# Altium schematic symbol library Power_DiscreteSSR_1.SCHLIB: 79 symbols (part 2 of 3)
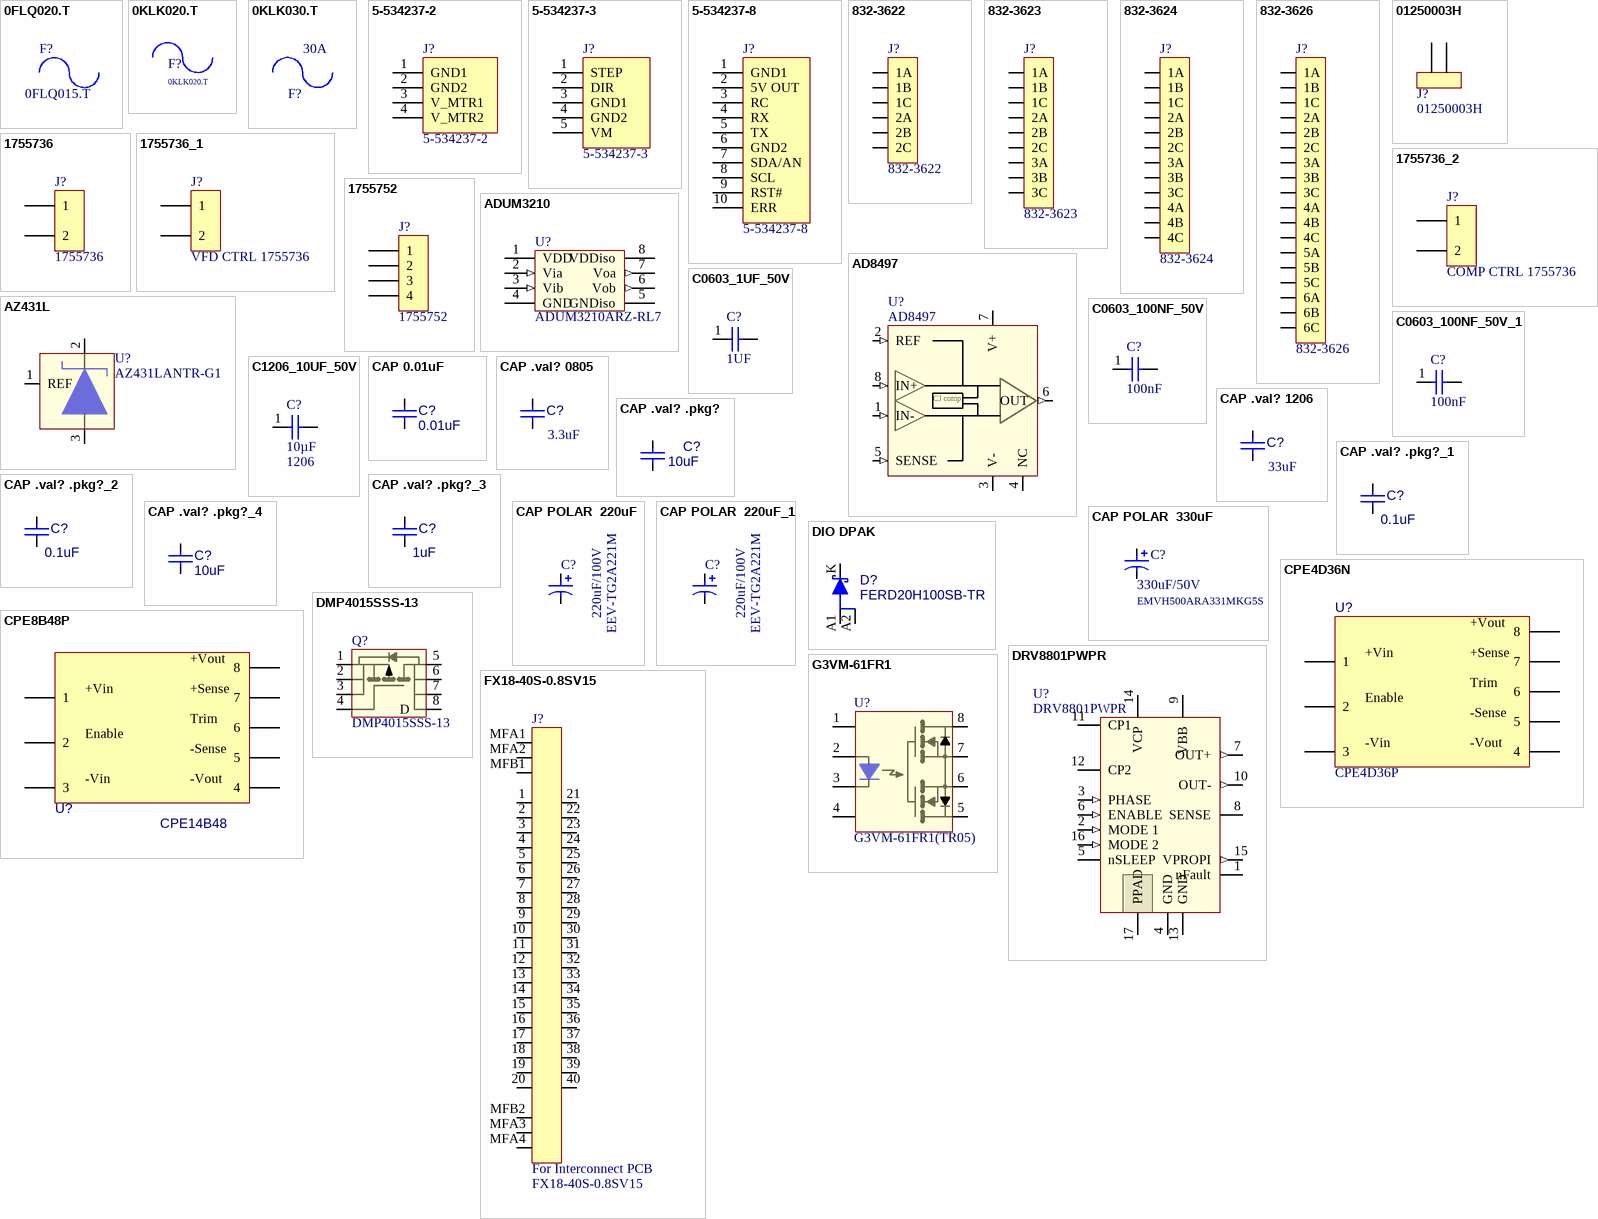
[diagram p2: symbols 0FLQ020.T to G3VM-61FR1]

## DMP4015SSS-13
designator Q?
MOSFET P-CH 40V 10.1A 8-Pin SO T/R; Manufacturer: Diodes; Rise Time: 10ns; Continuous Drain Current (ID): 9.1A; Turn-On Delay Time: 13.2ns; Turn-Off Delay Time: 302.7ns; Fall Time: 137.9ns; Gate to Source Voltage (Vgs): 25V; Rds On Max: 11mR; Input Capacitance: 4.234nF; Max Power Dissipation: 1.45W; Drain to Source Breakdown Voltage: -40V; Drain to Source Resistance: 7mR; Number of Channels: 1; ComponentLink1URL: http://www.vishay.com/docs/73140/si4401bd.pdf; ComponentLink1Description: http://www.vishay.com/docs/73140/si4401bd.pdf; Supplier 1: Digi-Key; Supplier Part Number 1: DMP4015SSS-13DIDKR-ND; Stock 1: 4398; Pricing 1: 1=0.79, 10=0.694, 100=0.5321, 500=0.42066, 1000=0.33653 (USD); Mount: Surface Mount; Case/Package: SO; Number of Pins: 8; Weight: 0.00261oz; Min Operating Temperature: -55°C; Max Operating Temperature: 150°C; Packaging: Tape and Reel; Package Quantity: 2500; Drain to Source Voltage (Vdss): 40V; Number of Elements: 1; Radiation Hardening: No; REACH SVHC: No SVHC; ComponentLink2URL: http://www.diodes.com/datasheets/DMP4015SSS.pdf?src-supplier=Avnet; ComponentLink2Description: http://www.diodes.com/datasheets/DMP4015SSS.pdf?src-supplier=Avnet; ComponentLink3URL: http://www.mouser.com/ds/2/115/DMP4015SSS-218520.pdf?src-supplier=Mouser; ComponentLink3Description: http://www.mouser.com/ds/2/115/DMP4015SSS-218520.pdf?src-supplier=Mouser; Manufacturer Part Number: DMP4015SSS-13
footprint SO_8
footprint SOIC_8
pins: 1 S, 2 S, 3 S, 4 G, 5 D, 6 D, 7 D, 8 D

## DRV8801PWPR
designator U?
IC MOTOR DRIVER PAR 16HTSSOP; Manufacturer: Texas Instruments; Max Supply Voltage: 38V; Min Supply Voltage: 8V; Output Current: 2.8A; Nominal Supply Current: 6mA; Logic Function: AND; Quiescent Current: 3.2mA; Operating Supply Voltage: 36V; Number of Outputs: 1; Interface: Parallel; Supplier 1: Digi-Key; Supplier Part Number 1: 296-25378-6-ND; Stock 1: 34165; Pricing 1: 1=2.65, 10=2.377, 100=1.9109, 500=1.56998, 1000=1.30084 (USD); Mount: Surface Mount; Case/Package: HTSSOP EP; Number of Pins: 16; Weight: 0.002212oz; Min Operating Temperature: -40°C; Max Operating Temperature: 85°C; Packaging: Tape and Reel; Package Quantity: 2000; Radiation Hardening: No; Lead Free: Lead Free; REACH SVHC: No SVHC; ComponentLink1URL: http://www.ti.com/lit/ds/symlink/drv8801.pdf?src-supplier=Digi-Key; ComponentLink1Description: http://www.ti.com/lit/ds/symlink/drv8801.pdf?src-supplier=Digi-Key; ComponentLink2URL: https://www.verical.com/server-webapp/html/getDatasheet?partID=362071&src-supplier=Verical; ComponentLink2Description: https://www.verical.com/server-webapp/html/getDatasheet?partID=362071&src-supplier=Verical; ComponentLink3URL: http://www.ti.com/lit/ds/symlink/drv8801.pdf?src-supplier=Avnet+Europe; ComponentLink3Description: http://www.ti.com/lit/ds/symlink/drv8801.pdf?src-supplier=Avnet+Europe; Manufacturer Part Number: DRV8801PWPR
footprint TSSOP_16_3X3
pins: 1 nFault (oc), 2 MODE 1 (in), 3 PHASE (in), 4 GND (power), 5 nSLEEP (oc), 6 ENABLE (in), 7 OUT+ (out), 8 SENSE, 9 VBB (power), 10 OUT- (out), 11 CP1, 12 CP2, 13 GND (power), 14 VCP, 15 VPROPI (out), 16 MODE 2 (in), 17 PPAD (power)

## FX18-40S-0.8SV15
designator J?, comment For Interconnect PCB  Manufacturer Part Number 1: FX18-40S-0.8SV15
CONN RCPT 40POS 0.8MM SMD GOLD; Manufacturer 1: Hirose; Number of Contacts: 40; Gender: Female; System: Connector; Mount: SMT; Contact Plating: Gold; Number of Rows: 2; Termination: Solder; Pitch: 0.8mm; Supplier 1: Digikey; Supplier Part Number 1: H12007-ND; RoHS: Yes; Category: Connectors; ComponentLink1Description: https://www.hirose.com/product/document?clcode=CL0579-0005-3-00&productname=FX18-100P-0.8SH&series=FX18&documenttype=Catalog&lang=en&documentid=D31695_en; ComponentLink1URL: https://www.hirose.com/product/document?clcode=CL0579-0005-3-00&productname=FX18-100P-0.8SH&series=FX18&documenttype=Catalog&lang=en&documentid=D31695_en; Manufacturer: Hirose; Manufacturer Part Number: FX18-40S-0.8SV15
footprint BCS-115-F-D-TE
footprint FX18-40S-0.8SV15 (CONN RCPT 40POS SMD GOLD)
pins: 1, 2, 3, 4, 5, 6, 7, 8, 9, 10, 11, 12, 13, 14, 15, 16, 17, 18, 19, 20, 21, 22, 23, 24, 25, 26, 27, 28, 29, 30, 31, 32, 33, 34, 35, 36, 37, 38 101, 39, 40, MFA1 (power), MFA2 (power), MFA3 (power), MFA4 (power), MFB1 (power), MFB2 (power)

## G3VM-61FR1
designator U?  Manufacturer Part Number: G3VM-61FR1(TR05)  (hidden comment: G3VM-61FR1)
SSR RELAY SPST-NO 5A 0-60V; Manufacturer: Omron; On-State Resistance: 50mR; Throw Configuration: SPST; Isolation Voltage: 2.5kV; Supplier 1: Digi-Key; Supplier Part Number 1: Z5867CT-ND; Stock 1: 11015; Pricing 1: 1=11.91, 10=11.162, 25=9.922, 50=9.426, 100=8.9298, 250=7.9376 (USD); Mount: Surface Mount; Case/Package: SMD/SMT; Number of Pins: 8; Packaging: Tape and Reel; Load Current: 5A; Termination: Gull Wing; Relay Type: Relay
footprint G3VM-61FR1 (SSR RELAY SPST-NO 5A 0-60V)
footprint SMD_8
pins: 1 NC, 2 A, 3 K, 4 NC, 5 D2, 6 S2, 7 S1, 8 D1

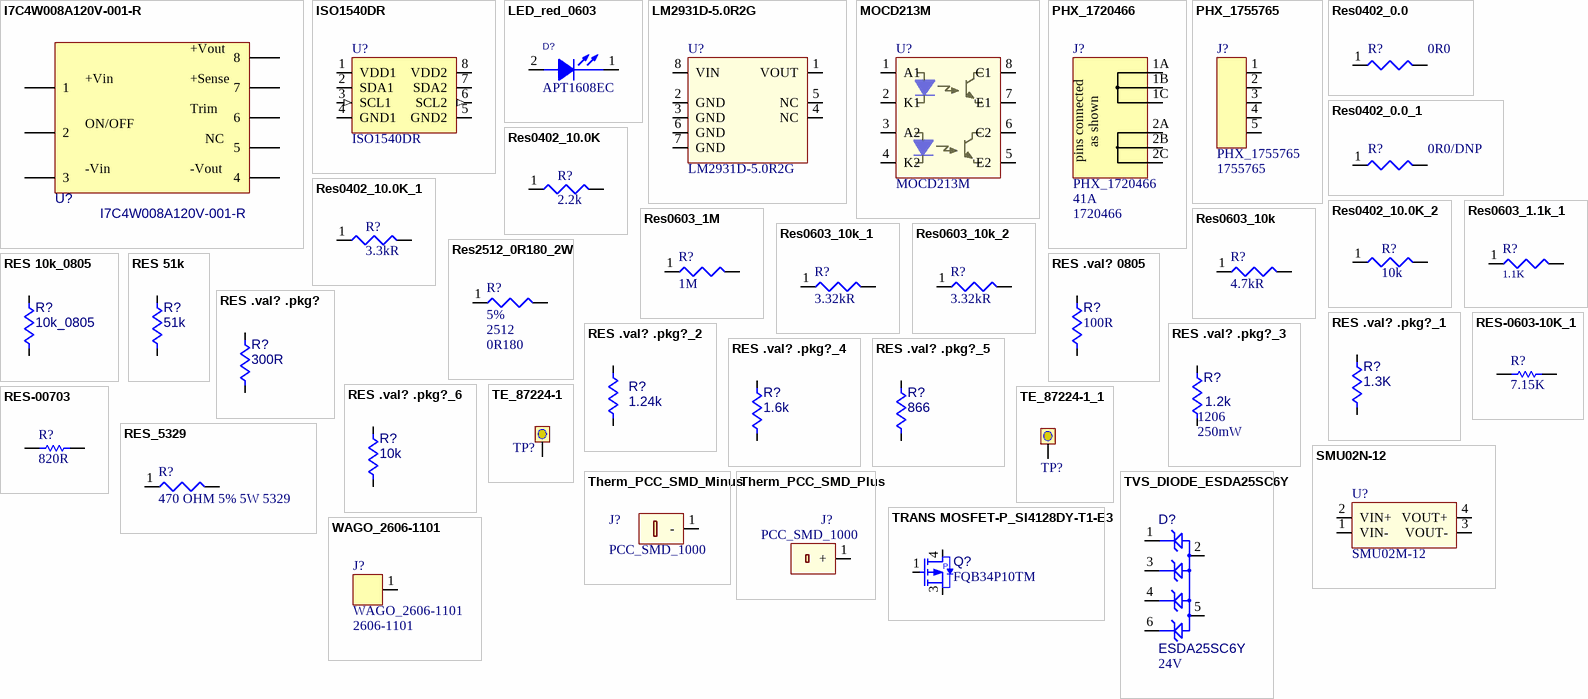
[diagram p1: symbols I7C4W008A120V-001-R to WAGO_2606-1101]

## I7C4W008A120V-001-R
designator U?
DC DC CONVERTER 9.6-48V OUTPUT 300W 8A 9V - 53V INPUT; Manufacturer: TDK-Lambda; Supplier 1: Digikey; Manufacturer Part Number: I7C4W008A120V-001-R; RoHS: Yes; Category: Board Mount Modules
footprint CPT2D36P (DC DC CONVERTER 72W)
pins: 1, 2, 3, 4, 5, 6, 7, 8
text: +Vout; +Vin; +Sense; Trim; ON/OFF; NC; -Vin; -Vout

## ISO1540DR
designator U?
TEXAS INSTRUMENTS - ISO1540DR - DIGITAL ISOLATOR, 2-CH, 1MBPS, SOIC-8; Number of Channels: 2; Min Supply Voltage: 3V; Max Supply Voltage: 5.5V; Nominal Supply Current: 3.6mA; Channel Type: Bidirectional; Propagation Delay: 70ns; Isolated Power: No; Pulse Width Distortion (PWD): 21ns; Working Voltage: 566V; Mount: Surface Mount; Case/Package: SOIC; Number of Pins: 8; Min Operating Temperature: -40°C; Max Operating Temperature: 125°C; Data Rate: 1Mbps; Packaging: Tape and Reel; Package Quantity: 1; REACH SVHC: No SVHC; Lead Free: Lead Free; ComponentLink1URL: https://datasheet.ciiva.com/6579/iso1540-6579725.pdf?src-supplier=Digi-Key; ComponentLink1Description: https://datasheet.ciiva.com/6579/iso1540-6579725.pdf?src-supplier=Digi-Key; ComponentLink2URL: https://datasheet.ciiva.com/6579/iso1540-6579723.pdf?src-supplier=Digi-Key; ComponentLink2Description: https://datasheet.ciiva.com/6579/iso1540-6579723.pdf?src-supplier=Digi-Key; ComponentLink3URL: https://datasheet.ciiva.com/6579/iso1540-6579724.pdf?src-supplier=Digi-Key; ComponentLink3Description: https://datasheet.ciiva.com/6579/iso1540-6579724.pdf?src-supplier=Digi-Key; Supplier 1: Digi-Key; Supplier Part Number 1: 296-34871-1-ND; Manufacturer 1: Texas Instruments; Manufacturer Part Number 1: ISO1540DR; Category: Interface ICs; RoHS: Yes; Stock 1: 30535; Pricing 1: 1=4.51000, 10=4.04600, 25=3.82520, 100=3.14500, 250=2.82200, 500=2.72000, 1000=2.26100 (USD); Manufacturer: Texas Instruments; Manufacturer Part Number: ISO1540DR; Manufacturer 2: Silicon Labs; Manufacturer Part Number 2: Si8600AB-B-ISR
footprint SOIC_8
pins: 1 VDD1 (power), 2 SDA1 (io), 3 SCL1 (in), 4 GND1 (power), 5 GND2 (power), 6 SCL2 (out), 7 SDA2 (io), 8 VDD2 (power)

## LED_red_0603
designator D?, comment Manufacturer Part Number: APT1608EC  (hidden comment: Error)
red, 0603; Manufacturer: Kingbright; Lens Color: Clear; Forward Current: 20mA; Forward Voltage: 2V; Luminous Intensity: 12mcd; Viewing Angle: 120°; Lens Style: Clear,Flat; Dominant Wavelength: 625nm; Number of LEDs: 1; Supplier 1: Digi-Key; Supplier Part Number 1: 754-1117-6-ND; Stock 1: 93649; Pricing 1: 1=0.35, 10=0.259, 25=0.1912, 100=0.1365, 250=0.09284, 500=0.0819, 1000=0.06416 (USD); Mount: Surface Mount; Case/Package: 0603; Number of Pins: 2; Color: Red; Case Code (Metric): 1608; Case Code (Imperial): 0603; Min Operating Temperature: -40°C; Max Operating Temperature: 85°C; Illumination Color: Red; Packaging: Tape and Reel; Package Quantity: 2000; Test Current: 20mA; Wavelength: 625nm; Length: 1.6mm; Height: 0.75mm; Width: 0.8mm; Lead Free: Lead Free; ComponentLink1URL: http://www.kingbrightusa.com/images/catalog/SPEC/APT1608EC.pdf?src-supplier=Digi-Key; ComponentLink1Description: http://www.kingbrightusa.com/images/catalog/SPEC/APT1608EC.pdf?src-supplier=Digi-Key; ComponentLink2URL: https://www.alliedelec.com/m/d/8f77ba6adbc677900716b25e6ddbc771.pdf?src-supplier=Allied+Electronics; ComponentLink2Description: https://www.alliedelec.com/m/d/8f77ba6adbc677900716b25e6ddbc771.pdf?src-supplier=Allied+Electronics; ComponentLink3URL: http://www.kingbrightusa.com/images/catalog/SPEC/APT1608EC.pdf?src-supplier=Future+Electronics; ComponentLink3Description: http://www.kingbrightusa.com/images/catalog/SPEC/APT1608EC.pdf?src-supplier=Future+Electronics
footprint APT1608EC
pins: 1 CATHODE, 2 ANODE
1 alternate drawing of the same symbol

## LM2931D-5.0R2G
designator U?
IC REG LINEAR 5V 100MA 8SOIC; Manufacturer 1: ON Semi; Min Input Voltage: 14V; Max Input Voltage: 40V; Dropout Voltage: 600mV; Number of Outputs: 1; Quiescent Current: 100uA; Accuracy: 5%; Output Type: Fixed; Mount: Surface Mount; Case/Package: 8SOIC; Number of Pins: 8; Min Operating Temperature: -40°C; Max Operating Temperature: 125°C; Nominal Output Voltage: 5V; Output Current: 100mA; Packaging: Tape and Reel; Output Voltage: 5V; Max Output Current: 100mA; Length: 5mm; Height: 1.75mm; Width: 6.2mm; REACH SVHC: No SVHC; Supplier 1: Digi-Key; Supplier Part Number 1: LM2931D-5.0R2GOSTR-ND; Manufacturer Part Number 1: LM2931D-5.0R2G; RoHS: Yes; Category: Voltage Regulators - Linear; Stock 1: 1142; Pricing 1: 1=0.11000, 25=0.09000, 100=0.08000 (USD); Manufacturer: ON Semi; Manufacturer Part Number: LM2931D-5.0R2G; ComponentLink1Description: https://www.onsemi.com/pdf/datasheet/lm2931-d.pdf; ComponentLink1URL: https://www.onsemi.com/pdf/datasheet/lm2931-d.pdf
footprint SOIC_8
pins: 1 VOUT (power), 2 GND (power), 3 GND (power), 4 NC, 5 NC, 6 GND (power), 7 GND (power), 8 VIN (power)

## MOCD213M
designator U?
OPTOISO 2.5KV 2CH TRANS 8SOIC; Manufacturer: ON Semiconductor / Fairchild; Collector Emitter Voltage (VCEO): 400mV; Number of Channels: 2; Forward Voltage: 1.55V; Max Output Voltage: 70V; Output Current per Channel: 150mA; Max Power Dissipation: 250mW; Rise Time: 1.6us; Reverse Breakdown Voltage: 6V; Forward Current: 60mA; Fall Time: 2.2us; Input Current: 30mA; ComponentLink1URL: http://www.farnell.com/datasheets/1725666.pdf?src-supplier=Element14; ComponentLink1Description: http://www.farnell.com/datasheets/1725666.pdf?src-supplier=Element14; ComponentLink2URL: http://uk.rs-online.com/webdocs/10e2/0900766b810e2595.pdf?src-supplier=RSComponents; ComponentLink2Description: http://uk.rs-online.com/webdocs/10e2/0900766b810e2595.pdf?src-supplier=RSComponents; ComponentLink3URL: https://www.verical.com/server-webapp/html/getDatasheet?partID=95917&src-supplier=Verical; ComponentLink3Description: https://www.verical.com/server-webapp/html/getDatasheet?partID=95917&src-supplier=Verical; Supplier 1: Digi-Key; Supplier Part Number 1: MOCD213M-ND; Stock 1: 1732; Pricing 1: 1=1.21, 10=0.987, 100=0.6831, 500=0.51612, 1000=0.42504 (USD); Mount: Surface Mount; Case/Package: SOIC; Number of Pins: 8; Weight: 0.252g; Min Operating Temperature: -40°C; Max Operating Temperature: 100°C; Packaging: Rail/Tube; Package Quantity: 3000; Max Collector Current: 150mA; Collector Emitter Saturation Voltage: 400mV; Reverse Voltage (DC): 6V; Isolation Voltage: 2.5kV; Max Input Current: 60mA; Number of Elements: 2; Power Dissipation: 250mW; Voltage Rating (DC): 70V; Number of Circuits: 2; Length: 5.13mm; Height: 3.43mm; Width: 4.16mm; Radiation Hardening: No; REACH SVHC: No SVHC; Lead Free: Lead Free; Manufacturer Part Number: MOCD213M
footprint SOIC_8
pins: 1 A1, 2 K1, 3 A2, 4 K2, 5 E2, 6 C2, 7 E1, 8 C1

## PHX_1720466
designator J?  Max Current Rating: 41A  Manufacturer Part Number: 1720466
Pluggable Terminal Blocks 2 Pos 7.62mm pitch Through Hole Header; Manufacturer: Phoenix Contact; Voltage Rating: 630V; Number of Positions Per Level: 2; Number of Levels: 1; Voltage: 300V; Gender: Male; Connector Type: Plug; Supplier 1: Digi-Key; RoHS: Yes; Category: Terminal Blocks; Stock 1: 4228; Pricing 1: 1=3.22000, 10=3.13500, 50=2.93000, 100=2.69560, 250=2.49048, 500=2.37330, 1000=2.25610 (USD); Mount: Through Hole; Color: Green; Contact Plating: Tin; Material: Polyamide; Housing Color: Green; Housing Material: Polyamide; Weight: 1.653lb; Contact Material: Copper,Tin; Packaging: Bulk; Package Quantity: 50; Number of Rows: 1; Current Rating: 41A; Termination: Solder; Current: 41A; Number of Positions: 2; Number of Contacts: 2; Orientation: Right Angle; Series: PC; Number of Poles: 2; Length: 18.04mm; Width: 29.25mm; Height: 19.29mm; Pitch: 7.62mm; Depth: 29.25mm; Flammability Rating: UL94 V-0; Lead Free: Lead Free; REACH SVHC: Unknown; ComponentLink1URL: https://datasheet.ciiva.com/16096/1720466-16096186.pdf?src-supplier=Onlinecomponents.com; ComponentLink1Description: https://datasheet.ciiva.com/16096/1720466-16096186.pdf?src-supplier=Onlinecomponents.com; ComponentLink2URL: https://datasheet.ciiva.com/6762/1720466-6762625.pdf?src-supplier=Digi-Key; ComponentLink2Description: https://datasheet.ciiva.com/6762/1720466-6762625.pdf?src-supplier=Digi-Key; ComponentLink3URL: https://datasheet.ciiva.com/29208/194084-da-01-de-grundgehaeuse-1720466-50-st-29208021.pdf?src-supplier=Conrad; ComponentLink3Description: https://datasheet.ciiva.com/29208/194084-da-01-de-grundgehaeuse-1720466-50-st-29208021.pdf?src-supplier=Conrad; Supplier Part Number 1: 277-6070-ND
footprint PHX_1720466
pins: 1A 0, 1B 0, 1C 0, 2A 0, 2B 0, 2C 0
text: as shown; pins connected

## PHX_1755765
designator J?  Manufacturer Part Number: 1755765
Terminal Header; 12 A; 250 V; 5.08 mm; 5; Solder Mount; 1.4 mm; 4 kV; 250 V; Manufacturer: Phoenix Contact; Voltage Rating: 250V; Number of Poles: 5; Current Rating: 12A; Number of Levels: 1; Voltage: 300V; Gender: Male; Connector Type: Plug; Pitch: 5.08mm; Approvals: UL,CSA; Supplier 1: Digi-Key; RoHS: Yes; Category: Terminal Blocks; Stock 1: 2847; Pricing 1: 1=1.84000, 10=1.76000, 50=1.68300, 100=1.63710, 250=1.53000, 500=1.40760, 1000=1.30050, 2500=1.23930, 5000=1.17810 (USD); Mount: Through Hole; Contact Plating: Tin; Color: Green,Grey; Weight: 5.467464oz; Housing Color: Green; Housing Material: Polybutylene; Contact Material: Tin; Package Quantity: 50; Packaging: Bulk; Series: MSTBVA; Termination: Solder; Voltage Rating (DC): 250V; Number of Rows: 1; Max Current Rating: 12A; Number of Positions Per Level: 5; Current: 12A; Number of Positions: 5; Number of Contacts: 5; Orientation: Straight; Length: 27.4mm; Width: 27.4mm; Height: 15.9mm; Depth: 8.6mm; REACH SVHC: No SVHC; Lead Free: Lead Free; Flammability Rating: UL94 V-0; ComponentLink1URL: https://datasheet.ciiva.com/796/1755765-796704.pdf?src-supplier=Digi-Key; ComponentLink1Description: https://datasheet.ciiva.com/796/1755765-796704.pdf?src-supplier=Digi-Key; ComponentLink2URL: https://datasheet.ciiva.com/16096/1755765-16096366.pdf?src-supplier=Onlinecomponents.com; ComponentLink2Description: https://datasheet.ciiva.com/16096/1755765-16096366.pdf?src-supplier=Onlinecomponents.com; ComponentLink3URL: https://datasheet.ciiva.com/15197/getdatasheetpartid-211503-15197317.pdf?src-supplier=Verical; ComponentLink3Description: https://datasheet.ciiva.com/15197/getdatasheetpartid-211503-15197317.pdf?src-supplier=Verical; Supplier Part Number 1: 277-1153-ND
footprint PHX-1755765 (TERM BLOCK HDR 5POS VERT 5.08MM)
pins: 1, 2, 3, 4, 5

## Res0402_0.0
designator R?  value 0R0  (hidden comment: Res0402_0.0)
RES 0.0 OHM 1/16W 0402 SMD; Manufacturer: Vishay/Dale; Manufacturer Part Number: CRCW04020000Z0ED; Manufacturer Two: Any equivalent to description; Manufacturer Two Part Number: Per manufacturer; Power (Watts): 0.063W, 1/16W; Tolerance: Jumper; Published: 8-Jun-2000; LatestRevisionDate: 29-May-2009; LatestRevisionNote: IPC-7351 Footprint Added.; PackageReference: J1-0603; Publisher: Altium Limited; PackageDescription: Chip Resistor; Supplier 1: Digi-Key; Supplier Part Number 1: 541-0.0JCT-ND; RoHS: RoHS Compliant; Category: Resistors; Stock 1: 1930051; Pricing 1: 10=0.074, 50=0.04, 200=0.02295, 1000=0.01566 (USD); Composition: Thick Film; Features: -; Temperature Coefficient: -; Size / Dimension: 0.039" L x 0.020" W (1.00mm x 0.50mm); Height: 0.014" (0.35mm); Lead Style: Surface Mount (SMD - SMT); Packaging: Cut Tape (CT); Package / Case: 0402 (1005 Metric); ComponentLink1URL: http://www.vishay.com/doc?20035; ComponentLink1Description: http://www.vishay.com/doc?20035
simulation model RESISTOR (Resistor)
signal-integrity model Res
footprint 0402
pins: 1, 2
1 alternate drawing of the same symbol

## Res0402_0.0_1
designator R?, comment value 0R0/DNP  (hidden comment: Res0402_0.0)
RES 0.0 OHM 1/16W 0402 SMD; Manufacturer: Vishay/Dale; Manufacturer Part Number: CRCW04020000Z0ED; Manufacturer Two: Any equivalent to description; Manufacturer Two Part Number: Per manufacturer; Power (Watts): 0.063W, 1/16W; Tolerance: Jumper; Published: 8-Jun-2000; LatestRevisionDate: 29-May-2009; LatestRevisionNote: IPC-7351 Footprint Added.; PackageReference: J1-0603; Publisher: Altium Limited; PackageDescription: Chip Resistor; Supplier 1: Digi-Key; Supplier Part Number 1: 541-0.0JCT-ND; RoHS: RoHS Compliant; Category: Resistors; Stock 1: 1930051; Pricing 1: 10=0.074, 50=0.04, 200=0.02295, 1000=0.01566 (USD); Composition: Thick Film; Features: -; Temperature Coefficient: -; Size / Dimension: 0.039" L x 0.020" W (1.00mm x 0.50mm); Height: 0.014" (0.35mm); Lead Style: Surface Mount (SMD - SMT); Packaging: Cut Tape (CT); Package / Case: 0402 (1005 Metric); ComponentLink1URL: http://www.vishay.com/doc?20035; ComponentLink1Description: http://www.vishay.com/doc?20035
simulation model RESISTOR (Resistor)
signal-integrity model Res
footprint 0402
pins: 1, 2
1 alternate drawing of the same symbol

## Res0402_10.0K
designator R?, comment Resistance: 2.2k  (hidden comment: Res0402_2.2K)
RES SMD 2.2K OHM 1% 1/16W 0402; Manufacturer: Vishay; Manufacturer Part Number: CRCW04022K20FKED; Temperature Coefficient: 100ppm/°C; Power Rating: 63mW; Voltage Rating (DC): 50V; ComponentLink1URL: https://datasheet.ciiva.com/11809/0900766b80d98824-11809984.pdf; ComponentLink1Description: https://datasheet.ciiva.com/11809/0900766b80d98824-11809984.pdf; ComponentLink2URL: https://datasheet.ciiva.com/2463/dcrcwe3-2463025.pdf; ComponentLink2Description: https://datasheet.ciiva.com/2463/dcrcwe3-2463025.pdf; ComponentLink3URL: https://datasheet.ciiva.com/2463/dcrcwe3-2463026.pdf; ComponentLink3Description: https://datasheet.ciiva.com/2463/dcrcwe3-2463026.pdf; Supplier 1: Digi-Key; Supplier Part Number 1: 541-2.20KLCT-ND; Stock 1: 6345; Pricing 1: 1=0.10000, 10=0.03600, 100=0.01460, 1000=0.00657, 2500=0.00570, 5000=0.00471 (USD); RoHS: Yes; Case/Package: 0402; Weight: 2.3E-05oz; Case Code (Metric): 1005; Case Code (Imperial): 0402; Contact Plating: Tin; Min Operating Temperature: -55°C; Max Operating Temperature: 155°C; Packaging: Tape and Reel; Tolerance: 1%; Composition: Thick Film; Number of Terminations: 2; Max Power Dissipation: 63mW; Voltage Rating: 50V; Military Standard: Not; Package Quantity: 10; Termination: SMD/SMT; Features: Automotive AEC-Q200; Length: 1mm; Height: 0.35mm; Width: 0.02inch; Depth: 0.5mm; Radiation Hardening: No; Lead Free: Lead Free; REACH SVHC: Unknown; ComponentLink30URL: https://datasheet.ciiva.com/26316/fld-crcw-e3-data-en-26316650.pdf?src-supplier=Distrelec; ComponentLink30Description: https://datasheet.ciiva.com/26316/fld-crcw-e3-data-en-26316650.pdf?src-supplier=Distrelec
simulation model RESISTOR (Resistor)
signal-integrity model Res
footprint 0402
footprint 0402
pins: 1, 2
1 alternate drawing of the same symbol

## Res0402_10.0K_1
designator R?, comment Resistance: 3.3kR  (hidden comment: Res0402_10.0K)
Resistor;  Thick Film;  3.3 Kilohms;  0.1 W;  1%;  SMT;  0603;  TCR 37 ppm/DegC; Manufacturer 1: Vishay; Manufacturer Part Number 1: CRCW06033K30FKEA; Working Voltage: 75V; Temperature Coefficient: 100ppm/°C; Power Rating: 100mW; ComponentLink1URL: https://datasheet.ciiva.com/11809/0900766b80d98824-11809984.pdf; ComponentLink1Description: https://datasheet.ciiva.com/11809/0900766b80d98824-11809984.pdf; ComponentLink2URL: https://datasheet.ciiva.com/2463/dcrcwe3-2463025.pdf; ComponentLink2Description: https://datasheet.ciiva.com/2463/dcrcwe3-2463025.pdf; ComponentLink3URL: https://datasheet.ciiva.com/2463/dcrcwe3-2463026.pdf; ComponentLink3Description: https://datasheet.ciiva.com/2463/dcrcwe3-2463026.pdf; Technology: THIN FILM; Supplier 1: Digi-Key; Supplier Part Number 1: 541-3.30KHCT-ND; RoHS: Yes; Category: Chip SMD Resistors; Stock 1: 240962; Pricing 1: 1=0.10000, 10=0.03600, 100=0.01450, 1000=0.00652, 2500=0.00566 (USD); Mount: Surface Mount; Case/Package: 0603; Case Code (Imperial): 0603; Case Code (Metric): 1608; Contact Plating: Tin,Lead; Weight: 7.1E-05oz; Min Operating Temperature: -55°C; Max Operating Temperature: 155°C; Tolerance: 1%; Packaging: Tape and Reel; Resistor Type: Thick Film; Series: CRCW; Voltage Rating: 75V; Number of Terminations: 2; Max Power Dissipation: 100mW; Termination: SMD/SMT; Voltage Rating (DC): 75V; Package Quantity: 10; Construction: Rectangular; Resistance Tolerance: 1%; Features: Automotive AEC-Q200; Length: 1.55mm; Width: 0.85mm; Height: 0.45mm; Depth: 0.85mm; Radiation Hardening: No; RoHS Compliant: Yes; Lead Free: Lead Free; Military Standard: Not; REACH SVHC: Unknown; Manufacturer: Vishay; Manufacturer Part Number: CRCW06033K30FKEA
simulation model RESISTOR (Resistor)
signal-integrity model Res
footprint 0603R(1608)
pins: 1, 2
1 alternate drawing of the same symbol

## Res0402_10.0K_2
designator R?, comment value 10k  (hidden comment: Res0402_10.0K)
RES SMD 10K OHM 1% 1/16W 0402; Manufacturer: Vishay; Manufacturer Part Number: CRCW040210K0FKED; Manufacturer Two: Any equivalent to description; Manufacturer Two Part Number: Per manufacturer; Resistance: 10kR; Temperature Coefficient: 100ppm/°C; Power Rating: 63mW; Voltage Rating: 50V; Supplier 1: Digi-Key; Supplier Part Number 1: 541-10.0KLCT-ND; Stock 1: 0; Pricing 1: 1=0.1, 10=0.044, 100=0.0178, 1000=0.008, 2500=0.007, 5000=0.0058 (USD); Mount: Surface Mount; Case/Package: 0402; Number of Pins: 2; Weight: 2.3E-05oz; Contact Plating: Tin; Case Code (Metric): 1005; Case Code (Imperial): 0402; Min Operating Temperature: -55°C; Max Operating Temperature: 155°C; Tolerance: 1%; Composition: Thick Film; Termination: SMD/SMT; Package Quantity: 10; Packaging: Tape and Reel; Military Standard: Not; Voltage Rating (DC): 50V; Number of Terminations: 2; Max Power Dissipation: 63mW; Length: 1mm; Height: 0.35mm; Width: 0.02inch; Depth: 0.5mm; Radiation Hardening: No; Lead Free: Lead Free; REACH SVHC: Unknown; ComponentLink1URL: https://datasheet.ciiva.com/11809/0900766b80d98824-11809984.pdf; ComponentLink1Description: https://datasheet.ciiva.com/11809/0900766b80d98824-11809984.pdf; ComponentLink2URL: https://datasheet.ciiva.com/2463/dcrcwe3-2463025.pdf; ComponentLink2Description: https://datasheet.ciiva.com/2463/dcrcwe3-2463025.pdf; ComponentLink3URL: https://datasheet.ciiva.com/2463/dcrcwe3-2463026.pdf; ComponentLink3Description: https://datasheet.ciiva.com/2463/dcrcwe3-2463026.pdf
simulation model RESISTOR (Resistor)
signal-integrity model Res
footprint 0402
pins: 1, 2
1 alternate drawing of the same symbol

## Res0603_1.1k_1
designator R?, comment 1.1K
RES 1.1KOHM 1/4W 5% 0603 SMD; Manufacturer: Panasonic; Manufacturer Part Number: ERJ-PA3J112V; Resistance: 1.1kR; Max Power Dissipation: 250mW; Temperature Coefficient: 200ppm/°C; ComponentLink1URL: https://datasheet.ciiva.com/22707/1697337-22707349.pdf?src-supplier=Element14; ComponentLink1Description: https://datasheet.ciiva.com/22707/1697337-22707349.pdf?src-supplier=Element14; ComponentLink2URL: https://datasheet.ciiva.com/15159/getdatasheetpartid-26323-15159174.pdf?src-supplier=Verical; ComponentLink2Description: https://datasheet.ciiva.com/15159/getdatasheetpartid-26323-15159174.pdf?src-supplier=Verical; ComponentLink3URL: https://datasheet.ciiva.com/2466/dcrcwe3-2466506.pdf?src-supplier=Digi-Key; ComponentLink3Description: https://datasheet.ciiva.com/2466/dcrcwe3-2466506.pdf?src-supplier=Digi-Key; Supplier 1: Digi-Key; Supplier Part Number 1: P1.1KBZCT-ND; Stock 1: 3003; Pricing 1: 1=0.10000, 10=0.08800, 100=0.03400, 1000=0.01496, 2500=0.01292 (USD); RoHS: Yes; Case/Package: 0603; Case Code (Metric): 1608; Case Code (Imperial): 0603; Min Operating Temperature: -55°C; Max Operating Temperature: 155°C; Features: Automotive AEC-Q200; Packaging: Tape and Reel; Composition: Thick Film; Number of Terminations: 2; Tolerance: 5%; Length: 0.063inch; Height: 0.018inch; Width: 0.031inch
simulation model RESISTOR (Resistor)
signal-integrity model Res
footprint 0603
footprint 0603R(1608)
pins: 1, 2

## Res0603_1M
designator R?, comment 1M
RES SMD 1M OHM 1% 1/10W 0603; Manufacturer 1: Panasonic; Manufacturer Part Number 1: ERJ-3EKF1004V; Resistance: 1MR; Temperature Coefficient: 100ppm/°C; Power Rating: 100mW; Voltage Rating: 75V; Mount: Surface Mount; Case/Package: 0603; Number of Pins: 2; Contact Plating: Tin; Case Code (Imperial): 0603; Case Code (Metric): 1608; Min Operating Temperature: -55°C; Max Operating Temperature: 155°C; Tolerance: 1%; Composition: Thick Film; Packaging: Tape and Reel; Package Quantity: 1; Termination: SMD/SMT; Number of Terminations: 2; Military Standard: Not; Max Power Dissipation: 100mW; Voltage Rating (DC): 75V; Features: Automotive AEC-Q200; Length: 1.6mm; Height: 0.022inch; Width: 0.8mm; Depth: 0.8mm; Radiation Hardening: No; REACH SVHC: No SVHC; Lead Free: Lead Free; ComponentLink1URL: https://datasheet.ciiva.com/2432/aoa0000c304-2432473.pdf?src-supplier=Digi-Key; ComponentLink1Description: https://datasheet.ciiva.com/2432/aoa0000c304-2432473.pdf?src-supplier=Digi-Key; Supplier Part Number 1: P1.00MHCT-ND; Supplier 1: Digi-Key; RoHS: Yes; Category: Chip SMD Resistors; Stock 1: 65782; Pricing 1: 1=0.10000, 10=0.03500, 100=0.01430, 1000=0.00641, 2500=0.00557 (USD); Manufacturer: Panasonic; Manufacturer Part Number: ERJ-3EKF1004V
simulation model RESISTOR (Resistor)
signal-integrity model Res
footprint 0603R(1608)
pins: 1, 2

## Res0603_10k
designator R?  Resistance: 4.7kR
RESISTOR, 0603, 0.1W, 1%, 4K7; Manufacturer 1: Panasonic; Manufacturer Part Number 1: ERJ-3EKF4701V; Temperature Coefficient: 100ppm/°C; Power Rating: 100mW; Voltage Rating: 75V; ComponentLink1URL: https://datasheet.ciiva.com/16511/aoa0000ce2-16511861.pdf?src-supplier=Avnet+Asia; ComponentLink1Description: https://datasheet.ciiva.com/16511/aoa0000ce2-16511861.pdf?src-supplier=Avnet+Asia; ComponentLink2URL: https://datasheet.ciiva.com/7830/aoa0000ce2-7830729.pdf?src-supplier=Element14; ComponentLink2Description: https://datasheet.ciiva.com/7830/aoa0000ce2-7830729.pdf?src-supplier=Element14; Supplier 1: Digi-Key; Supplier Part Number 1: P4.70KHCT-ND; RoHS: Yes; Category: Chip SMD Resistors; Stock 1: 197363; Pricing 1: 1=0.10000, 10=0.03700, 100=0.01490, 1000=0.00670, 2500=0.00582 (USD); Mount: Surface Mount; Case/Package: 0603; Number of Pins: 2; Contact Plating: Tin; Case Code (Metric): 1608; Case Code (Imperial): 0603; Weight: 7.1E-05oz; Size Code: 0603; Min Operating Temperature: -55°C; Max Operating Temperature: 155°C; Tolerance: 1%; Resistor Type: Thick Film; Packaging: Tape and Reel; Package Quantity: 1; Number of Terminations: 2; Termination: SMD/SMT; Max Power Dissipation: 100mW; Voltage Rating (DC): 75V; Features: Automotive AEC-Q200; Series: ERJ; Resistance Tolerance: 1%; Construction: Rectangular; Length: 1.6mm; Width: 0.031inch; Height: 0.022inch; Depth: 0.8mm; Radiation Hardening: No; REACH SVHC: No SVHC; Military Standard: Not; Lead Free: Lead Free; RoHS Compliant: Yes; ComponentLink3URL: https://datasheet.ciiva.com/24160/aoa0000ce2-24160445.pdf?src-supplier=Mouser; ComponentLink3Description: https://datasheet.ciiva.com/24160/aoa0000ce2-24160445.pdf?src-supplier=Mouser; Manufacturer: Panasonic; Manufacturer Part Number: ERJ-3EKF4701V
simulation model RESISTOR (Resistor)
signal-integrity model Res
footprint 0603R(1608)
pins: 1, 2

## Res0603_10k_1
designator R?  Resistance: 3.32kR
RES SMD 3.32K OHM 0.1% 1/10W; Manufacturer 1: Yageo; Manufacturer Part Number 1: RT0603BRD073K32L; Temperature Coefficient: 25ppm/°C; Power Rating: 100mW; Voltage Rating: 75V; Voltage Rating (DC): 50V; Supplier 1: Digi-Key; Supplier Part Number 1: YAG1651CT-ND; RoHS: Yes; Category: Chip SMD Resistors; Stock 1: 42236; Pricing 1: 1=0.32000, 10=0.27400, 100=0.10730, 1000=0.04491, 2500=0.04117 (USD); Case/Package: 0603; Case Code (Imperial): 0603; Case Code (Metric): 1608; Contact Plating: Tin,Matte; Weight: 7.1E-05oz; Size Code: 0603; Min Operating Temperature: -55°C; Max Operating Temperature: 125°C; Packaging: Tape and Reel; Resistor Type: Thin Film; Tolerance: 0.1%; Series: RT; Number of Terminations: 2; Max Power Dissipation: 100mW; Package Quantity: 5000; Termination: SMD/SMT; Features: Moisture Resistant; Construction: Rectangular; Length: 1.6mm; Width: 0.031inch; Height: 0.022inch; Depth: 0.8mm; Radiation Hardening: No; RoHS Compliant: Yes; Lead Free: Lead Free; Military Standard: Not; ComponentLink1URL: https://datasheet.ciiva.com/12809/pyu-rt-1-to-0-05-rohs-l-4-12809644.pdf?src-supplier=Mouser; ComponentLink1Description: https://datasheet.ciiva.com/12809/pyu-rt-1-to-0-05-rohs-l-4-12809644.pdf?src-supplier=Mouser; ComponentLink2URL: https://datasheet.ciiva.com/8893/pyu-rt-1-to-0-05-rohs-l-4-8893709.pdf?src-supplier=Avnet; ComponentLink2Description: https://datasheet.ciiva.com/8893/pyu-rt-1-to-0-05-rohs-l-4-8893709.pdf?src-supplier=Avnet; ComponentLink3URL: https://datasheet.ciiva.com/2585/pyu-rt-1-to-0-05-rohs-l-4-2585925.pdf?src-supplier=Digi-Key; ComponentLink3Description: https://datasheet.ciiva.com/2585/pyu-rt-1-to-0-05-rohs-l-4-2585925.pdf?src-supplier=Digi-Key; Manufacturer: Yageo; Manufacturer Part Number: RT0603BRD073K32L
simulation model RESISTOR (Resistor)
signal-integrity model Res
footprint 0603R(1608)
pins: 1, 2

## Res0603_10k_2
designator R?  Resistance: 3.32kR
RES SMD 3.32K OHM 0.1% 1/10W; Manufacturer 1: Yageo; Manufacturer Part Number 1: RT0603BRD073K32L; Temperature Coefficient: 25ppm/°C; Power Rating: 100mW; Voltage Rating: 75V; Voltage Rating (DC): 50V; ComponentLink1URL: https://datasheet.ciiva.com/16511/aoa0000ce2-16511861.pdf?src-supplier=Avnet+Asia; ComponentLink1Description: https://datasheet.ciiva.com/16511/aoa0000ce2-16511861.pdf?src-supplier=Avnet+Asia; ComponentLink2URL: https://datasheet.ciiva.com/7830/aoa0000ce2-7830729.pdf?src-supplier=Element14; ComponentLink2Description: https://datasheet.ciiva.com/7830/aoa0000ce2-7830729.pdf?src-supplier=Element14; ComponentLink3URL: https://datasheet.ciiva.com/24160/aoa0000ce2-24160445.pdf?src-supplier=Mouser; ComponentLink3Description: https://datasheet.ciiva.com/24160/aoa0000ce2-24160445.pdf?src-supplier=Mouser; Supplier 1: Digi-Key; Supplier Part Number 1: YAG1651CT-ND; RoHS: Yes; Category: Chip SMD Resistors; Stock 1: 42236; Pricing 1: 1=0.32000, 10=0.27400, 100=0.10730, 1000=0.04491, 2500=0.04117 (USD); Case/Package: 0603; Case Code (Imperial): 0603; Case Code (Metric): 1608; Contact Plating: Tin,Matte; Weight: 7.1E-05oz; Size Code: 0603; Min Operating Temperature: -55°C; Max Operating Temperature: 125°C; Packaging: Tape and Reel; Resistor Type: Thin Film; Tolerance: 0.1%; Series: RT; Number of Terminations: 2; Max Power Dissipation: 100mW; Package Quantity: 5000; Termination: SMD/SMT; Features: Moisture Resistant; Construction: Rectangular; Length: 1.6mm; Width: 0.031inch; Height: 0.022inch; Depth: 0.8mm; Radiation Hardening: No; RoHS Compliant: Yes; Lead Free: Lead Free; Military Standard: Not; Manufacturer: Yageo; Manufacturer Part Number: RT0603BRD073K32L
simulation model RESISTOR (Resistor)
signal-integrity model Res
footprint 0603R(1608)
pins: 1, 2

## Res2512_0R180_2W
designator R?  value 0R180  Tolerance: 5%  Case/Package: 2512  (hidden comment: Res2512_0R180_2W)
RES SMD Current Sense Resistor, 0.18 ohm, 2512 [6432 Metric], 2 W,  5%, RL73 Series; Manufacturer: TE Connectivity; Manufacturer Part Number: RLP73K3AR18JTE; Manufacturer Two: Any equivalent to description; Manufacturer Two Part Number: Per manufacturer; Resistance: 180mR; Power Rating: 2W; Temperature Coefficient: 200ppm/°C; Number of Resistors: 1; ComponentLink1URL: https://www.seielect.com/Catalog/SEI-RMCF_RMCP.pdf; ComponentLink1Description: https://www.seielect.com/Catalog/SEI-RMCF_RMCP.pdf; Supplier 1: Digi-Key; Supplier Part Number 1: A109897DKR-ND; Stock 1: 8000; Pricing 1: 1=0.73, 10=0.518, 25=0.4044, 50=0.342, 100=0.2695, 250=0.22804, 500=0.18656, 1000=0.1451 (USD); Mount: Surface Mount; Case Code (Metric): 6432; Case Code (Imperial): 2512; Min Operating Temperature: -55°C; Max Operating Temperature: 155°C; Package Quantity: 1; Packaging: Tape and Reel; Composition: Thick Film; Number of Terminations: 2; Max Power Dissipation: 2W; Termination: Solder; Length: 0.25inch; Height: 0.033inch; Width: 0.124inch; REACH SVHC: No SVHC; ELV: Compliant; ComponentLink2URL: http://www.farnell.com/datasheets/1610602.pdf?src-supplier=Element14; ComponentLink2Description: http://www.farnell.com/datasheets/1610602.pdf?src-supplier=Element14; ComponentLink3URL: http://www.te.com/commerce/DocumentDelivery/DDEController?Action=srchrtrv&DocNm=1773269&DocType=DS&DocLang=English&src-supplier=Digi-Key; ComponentLink3Description: http://www.te.com/commerce/DocumentDelivery/DDEController?Action=srchrtrv&DocNm=1773269&DocType=DS&DocLang=English&src-supplier=Digi-Key
simulation model RESISTOR (Resistor)
signal-integrity model Res
footprint 0603
footprint 2512 (Footprint not found)
pins: 1, 2

## RES 10k_0805
designator R?, comment 10k_0805
Res Thick Film 0805 10K Ohm 1% 0.125W ±100ppm/°C Molded SMD Paper T/R; Manufacturer: Stackpole Electronics; Manufacturer Part Number: RMCF0805FT10K0; Resistance: 10kR; Power Rating: 125mW; ComponentLink1URL: https://datasheet.ciiva.com/11821/0900766b80f80784-11821667.pdf?src-supplier=RSComponents; ComponentLink1Description: https://datasheet.ciiva.com/11821/0900766b80f80784-11821667.pdf?src-supplier=RSComponents; ComponentLink2URL: https://datasheet.ciiva.com/46381/1678782-46381561.pdf?src-supplier=Element14; ComponentLink2Description: https://datasheet.ciiva.com/46381/1678782-46381561.pdf?src-supplier=Element14; ComponentLink3URL: https://datasheet.ciiva.com/22682/1678782-22682207.pdf?src-supplier=Element14; ComponentLink3Description: https://datasheet.ciiva.com/22682/1678782-22682207.pdf?src-supplier=Element14; ComponentLink4URL: https://datasheet.ciiva.com/46381/1678782-46381560.pdf?src-supplier=Element14; ComponentLink4Description: https://datasheet.ciiva.com/46381/1678782-46381560.pdf?src-supplier=Element14; ComponentLink5URL: https://datasheet.ciiva.com/24026/aoa0000ce2-24026488.pdf?src-supplier=Mouser; ComponentLink5Description: https://datasheet.ciiva.com/24026/aoa0000ce2-24026488.pdf?src-supplier=Mouser; ComponentLink6URL: https://datasheet.ciiva.com/16788/70260748-16788109.pdf?src-supplier=Allied+Electronics; ComponentLink6Description: https://datasheet.ciiva.com/16788/70260748-16788109.pdf?src-supplier=Allied+Electronics; ComponentLink7URL: https://datasheet.ciiva.com/16774/70260748-16774949.pdf?src-supplier=Allied+Electronics; ComponentLink7Description: https://datasheet.ciiva.com/16774/70260748-16774949.pdf?src-supplier=Allied+Electronics; ComponentLink8URL: https://datasheet.ciiva.com/30051/aoa0000ce2-30051758.pdf?src-supplier=Onlinecomponents.com; ComponentLink8Description: https://datasheet.ciiva.com/30051/aoa0000ce2-30051758.pdf?src-supplier=Onlinecomponents.com; ComponentLink9URL: https://datasheet.ciiva.com/17209/aoa0000ce2-17209430.pdf?src-supplier=Avnet+Europe; ComponentLink9Description: https://datasheet.ciiva.com/17209/aoa0000ce2-17209430.pdf?src-supplier=Avnet+Europe; Supplier 1: Digi-Key; RoHS: Yes; Category: Chip SMD Resistors; Stock 1: 10552273; Pricing 1: 5000=0.00350 (USD); Mount: Surface Mount; Case/Package: 0805; Case Code (Metric): 2012; Case Code (Imperial): 0805; Contact Plating: Tin,Matte; Size Code: 0805; Min Operating Temperature: -55°C; Max Operating Temperature: 155°C; Tolerance: 1%; Packaging: Tape and Reel; Resistor Type: Thick Film; Number of Terminations: 2; Temperature Coefficient: 100ppm/°C; Max Power Dissipation: 125mW; Features: Automotive AEC-Q200; Series: RMCF; Construction: Rectangular; Length: 2mm; Width: 0.049inch; Height: 0.026inch; Depth: 1.25mm; Radiation Hardening: No; Lead Free: Lead Free; Military Standard: Not; RoHS Compliant: Yes; ComponentLink10URL: https://datasheet.ciiva.com/15193/getdatasheetpartid-362046-15193525.pdf?src-supplier=Verical; ComponentLink10Description: https://datasheet.ciiva.com/15193/getdatasheetpartid-362046-15193525.pdf?src-supplier=Verical; Supplier Part Number 1: RMCF0805FT10K0TR-ND
simulation model RESISTOR (Resistor)
footprint 0805
pins: 1, 2

## RES 51k
designator R?, comment 51k
Res Thick Film 0805 51K Ohm 1% 1/8W ±100ppm/°C Molded SMD Punched Carrier T/R; Manufacturer: Panasonic; Manufacturer Part Number: ERJ-6ENF5102V; Resistance: 51kR; Power Rating: 125mW; Voltage Rating: 150V; Supplier 1: Digi-Key; RoHS: Yes; Category: Chip SMD Resistors; Stock 1: 4115; Pricing 1: 1=0.10000, 10=0.08200, 100=0.03160, 1000=0.01392, 2500=0.01202 (USD); Mount: Surface Mount; Case/Package: 0805; Case Code (Imperial): 0805; Case Code (Metric): 2012; Min Operating Temperature: -55°C; Max Operating Temperature: 155°C; Tolerance: 1%; Resistor Type: Thick Film; Temperature Coefficient: 100ppm/°C; Packaging: Tape and Reel; Package Quantity: 1; Number of Terminations: 2; Termination: SMD/SMT; Max Power Dissipation: 125mW; Voltage Rating (DC): 150V; Features: Automotive AEC-Q200; Series: ERJ; Construction: Rectangular; Resistance Tolerance: 1%; Technology: THICK FILM; Length: 2mm; Width: 1.2mm; Height: 0.6mm; Depth: 1.25mm; Radiation Hardening: No; REACH SVHC: No SVHC; Military Standard: Not; RoHS Compliant: Yes; ComponentLink1URL: https://datasheet.ciiva.com/11821/0900766b80f80784-11821667.pdf?src-supplier=RSComponents; ComponentLink1Description: https://datasheet.ciiva.com/11821/0900766b80f80784-11821667.pdf?src-supplier=RSComponents; ComponentLink2URL: https://datasheet.ciiva.com/46381/1678782-46381561.pdf?src-supplier=Element14; ComponentLink2Description: https://datasheet.ciiva.com/46381/1678782-46381561.pdf?src-supplier=Element14; ComponentLink3URL: https://datasheet.ciiva.com/22682/1678782-22682207.pdf?src-supplier=Element14; ComponentLink3Description: https://datasheet.ciiva.com/22682/1678782-22682207.pdf?src-supplier=Element14; Supplier Part Number 1: P51.0KCCT-ND; Contact Plating: Tin
simulation model RESISTOR (Resistor)
footprint 0805
pins: 1, 2

## RES .val? 0805
designator R?, comment Resistance: 100R  (hidden comment: ?)
RES 100 OHM 5% 1/4W 0805; Manufacturer: KOA; Manufacturer Part Number: RK73B2ATTD101J; _Verified Footprint: .mfr-pn? footprint?; _Verified BOM: .mfr-pn?; Max Power Dissipation: 250mW; Temperature Coefficient: 200ppm/°C; _Verified Symbol: .mfr-pn?; Supplier 1: Digi-Key; Supplier Part Number 1: 2019-RK73B2ATTD101JTR-ND; RoHS: Yes; Category: Chip SMD Resistors; Stock 1: 4773; Pricing 1: 1=0.14000, 10=0.12400, 100=0.04790, 1000=0.02105, 2500=0.01818 (USD); Case/Package: 0805; Case Code (Metric): 2012; Case Code (Imperial): 0805; Min Operating Temperature: -55°C; Max Operating Temperature: 155°C; Package Quantity: 1; Tolerance: 5%; Packaging: Tape and Reel; Resistor Type: Thick Film; Number of Terminations: 2; Features: Automotive AEC-Q200; Length: 0.079inch; Height: 0.024inch; Width: 0.049inch; ComponentLink1Description: https://www.koaspeer.com/pdfs/RK73B.pdf; ComponentLink1URL: https://www.koaspeer.com/pdfs/RK73B.pdf
simulation model RESISTOR (Resistor)
signal-integrity model Generic Resistor
footprint RESC2012X?N (Footprint not found)
footprint 0805
pins: 1, 2

## RES .val? .pkg?
designator R?, comment 300R
TE Connectivity RP73 Series Thin Film Fixed Resistor 0603 Case 866 0.1% 0.166W 25ppm/C; Manufacturer: Bourns Inc; Manufacturer Part Number: CR0603-JW-301ELF; _Verified Footprint: .mfr-pn? footprint?; _Verified Symbol: .mfr-pn?; Power Rating: 100mW; Tolerance: 5%; Temperature Coefficient: 200ppm/°C; _Verified BOM: .mfr-pn?; Supplier 1: Digi-Key; Supplier Part Number 1: CR0603-JW-301ELFCT-ND; RoHS: Yes; Category: Chip SMD Resistors; Stock 1: 974; Pricing 1: 1=0.66000, 10=0.48500, 100=0.28230 (USD); Mount: Surface Mount; Case/Package: 0603; Case Code (Metric): 1608; Case Code (Imperial): 0603; Min Operating Temperature: -55°C; Max Operating Temperature: 155°C; Resistance: 300R; Packaging: Tape and Reel; Composition: Thick Film; Number of Terminations: 2; Package Quantity: 1000; Termination: Solder; Max Power Dissipation: 100mW; Length: 0.061inch; Height: 0.022inch; Width: 0.031inch; Depth: 0.8mm; REACH SVHC: No SVHC; ComponentLink1Description: https://www.bourns.com/docs/product-datasheets/CRxxxxx.pdf; ComponentLink1URL: https://www.bourns.com/docs/product-datasheets/CRxxxxx.pdf
simulation model RESISTOR (Resistor)
footprint 0603R(1608)
pins: 1, 2

## RES .val? .pkg?_1
designator R?, comment 1.3K
RES SMD 1.3K OHM 1% 1/10W 0603; Manufacturer: Panasonic; Manufacturer Part Number: ERJ-3EKF1301V; _Verified Footprint: .mfr-pn? footprint?; _Verified Symbol: .mfr-pn?; Power Rating: 100mW; Temperature Coefficient: 100ppm/°C; _Verified BOM: .mfr-pn?; Supplier 1: Digi-Key; Supplier Part Number 1: P1.30KHTR-ND; RoHS: Yes; Category: Chip SMD Resistors; Mount: Surface Mount; Case/Package: 0603; Case Code (Metric): 1608; Case Code (Imperial): 0603; Min Operating Temperature: -55°C; Max Operating Temperature: 155°C; Resistance: 1.3K; Tolerance: 1%; Packaging: Tape and Reel; Composition: Thick Film; Number of Terminations: 2; Termination: Solder; Max Power Dissipation: 100mW; Length: 0.061inch; Height: 0.022inch; Width: 0.031inch; Depth: 0.8mm; REACH SVHC: No SVHC; ComponentLink1Description: https://industrial.panasonic.com/cdbs/www-data/pdf/RDA0000/AOA0000C304.pdf; ComponentLink1URL: https://industrial.panasonic.com/cdbs/www-data/pdf/RDA0000/AOA0000C304.pdf
simulation model RESISTOR (Resistor)
footprint 0603R(1608)
pins: 1, 2

## RES .val? .pkg?_2
designator R?, comment 1.24k
TE CONNECTIVITY         RP73PF2A1K24BTDF             SMD Chip Resistor, Thin Film, 1.24 kohm, 150 V, 0805 [2012 Metric], 250 mW,  0.1%, RN73 Series; _Verified Footprint: .mfr-pn? footprint?; _Verified Symbol: .mfr-pn?; Resistance: 1.24kR; Temperature Coefficient: 25ppm/°C; Power Rating: 250mW; Voltage Rating: 150V; _Verified BOM: .mfr-pn?; Supplier 1: Digi-Key; Supplier Part Number 1: A110552CT-ND; Manufacturer: TE Connectivity; Manufacturer Part Number: RP73PF2A1K24BTDF; RoHS: Yes; Category: Chip SMD Resistors; Stock 1: 1550; Pricing 1: 1=0.66000, 10=0.48500, 100=0.28230 (USD); Mount: Surface Mount; Case/Package: 0805; Case Code (Metric): 2012; Case Code (Imperial): 0805; Min Operating Temperature: -55°C; Max Operating Temperature: 155°C; Tolerance: 0.1%; Packaging: Tape and Reel; Composition: Thin Film; Number of Terminations: 2; Package Quantity: 1000; Voltage Rating (DC): 150V; Max Power Dissipation: 250mW; Termination: Solder; Length: 0.079inch; Height: 0.026inch; Width: 0.049inch; Depth: 1.25mm; REACH SVHC: No SVHC; ComponentLink1URL: https://datasheet.ciiva.com/18596/eng-ds-1773272-j-18596218.pdf?src-supplier=Digi-Key; ComponentLink1Description: https://datasheet.ciiva.com/18596/eng-ds-1773272-j-18596218.pdf?src-supplier=Digi-Key; ComponentLink2URL: https://datasheet.ciiva.com/18596/eng-ds-1773272-j-18596216.pdf?src-supplier=Digi-Key; ComponentLink2Description: https://datasheet.ciiva.com/18596/eng-ds-1773272-j-18596216.pdf?src-supplier=Digi-Key; ComponentLink3URL: https://datasheet.ciiva.com/7862/1635325-7862777.pdf?src-supplier=Element14; ComponentLink3Description: https://datasheet.ciiva.com/7862/1635325-7862777.pdf?src-supplier=Element14
simulation model RESISTOR (Resistor)
footprint 0805
pins: 1, 2

## RES .val? .pkg?_3
designator R?, comment 1.2k  Case/Package: 1206  Power Rating: 250mW
Res Thick Film 1206 1.2K Ohm 1% 0.25W(1/4W) ±100ppm/C Molded SMD Automotive Punched T/R; Manufacturer: Panasonic; Manufacturer Part Number: ERJ-8ENF1201V; _Verified Footprint: .mfr-pn? footprint?; _Verified Symbol: .mfr-pn?; Resistance: 1.2kR; Voltage Rating: 200V; Temperature Coefficient: 100ppm/°C; _Verified BOM: .mfr-pn?; Supplier 1: Digi-Key; Supplier Part Number 1: P1.20KFCT-ND; RoHS: Yes; Category: Chip SMD Resistors; Stock 1: 68396; Pricing 1: 1=0.10000, 10=0.08900, 100=0.03410, 1000=0.01500, 2500=0.01296 (USD); Mount: Surface Mount; Number of Pins: 2; Case Code (Metric): 3216; Case Code (Imperial): 1206; Contact Plating: Tin; Min Operating Temperature: -55°C; Max Operating Temperature: 155°C; Tolerance: 1%; Packaging: Tape and Reel; Composition: Thick Film; Package Quantity: 5000; Number of Terminations: 2; Termination: SMD/SMT; Military Standard: Not; Max Power Dissipation: 250mW; Voltage Rating (DC): 200V; Length: 3.2mm; Height: 0.6mm; Width: 0.063inch; Depth: 1.6mm; Radiation Hardening: No; REACH SVHC: No SVHC; ComponentLink1URL: https://datasheet.ciiva.com/16757/70260748-16757765.pdf?src-supplier=Allied+Electronics; ComponentLink1Description: https://datasheet.ciiva.com/16757/70260748-16757765.pdf?src-supplier=Allied+Electronics; ComponentLink2URL: https://datasheet.ciiva.com/30229/aoa0000ce2-30229318.pdf?src-supplier=Onlinecomponents.com; ComponentLink2Description: https://datasheet.ciiva.com/30229/aoa0000ce2-30229318.pdf?src-supplier=Onlinecomponents.com; ComponentLink3URL: https://datasheet.ciiva.com/7802/426256-7802461.pdf?src-supplier=Element14; ComponentLink3Description: https://datasheet.ciiva.com/7802/426256-7802461.pdf?src-supplier=Element14
simulation model RESISTOR (Resistor)
footprint RESC3216X84N
footprint RESC3216X84N
footprint 1206
pins: 1, 2

## RES .val? .pkg?_4
designator R?, comment 1.6k
RES SMD 1.6K OHM 1% 1/4W 1206; Manufacturer 1: Panasonic; Manufacturer Part Number 1: ERJ-8ENF1601V; Resistance: 1.6kR; Temperature Coefficient: 100ppm/°C; Max Power Dissipation: 250mW; Voltage Rating: 200V; Supplier 1: Digi-Key; Supplier Part Number 1: P1.60KFCT-ND; RoHS: Yes; Category: Chip SMD Resistors; Stock 1: 42; Pricing 1: 1=0.10000, 10=0.09300, 100=0.03560, 1000=0.01569, 2500=0.01355 (USD); Mount: Surface Mount; Case/Package: 1206; Case Code (Metric): 3216; Case Code (Imperial): 1206; Contact Plating: Tin; Min Operating Temperature: -55°C; Max Operating Temperature: 155°C; Tolerance: 1%; Packaging: Tape and Reel; Package Quantity: 1; Resistor Type: Thick Film; Series: ERJ; Number of Terminations: 2; Power Rating: 250mW; Features: Automotive AEC-Q200; Construction: Rectangular; Resistance Tolerance: 1%; Length: 3.2mm; Width: 0.063inch; Height: 0.028inch; Depth: 1.6mm; Radiation Hardening: No; RoHS Compliant: Yes; Military Standard: Not; REACH SVHC: No SVHC; ComponentLink1URL: https://datasheet.ciiva.com/46436/1678782-46436811.pdf?src-supplier=Element14; ComponentLink1Description: https://datasheet.ciiva.com/46436/1678782-46436811.pdf?src-supplier=Element14; ComponentLink2URL: https://datasheet.ciiva.com/22736/1678782-22736494.pdf?src-supplier=Element14; ComponentLink2Description: https://datasheet.ciiva.com/22736/1678782-22736494.pdf?src-supplier=Element14; ComponentLink3URL: https://datasheet.ciiva.com/46436/1678782-46436810.pdf?src-supplier=Element14; ComponentLink3Description: https://datasheet.ciiva.com/46436/1678782-46436810.pdf?src-supplier=Element14; Manufacturer: Panasonic; Manufacturer Part Number: ERJ-8ENF1601V
simulation model RESISTOR (Resistor)
footprint 1206
pins: 1, 2

## RES .val? .pkg?_5
designator R?, comment 866
TE Connectivity RP73 Series Thin Film Fixed Resistor 0603 Case 866 0.1% 0.166W 25ppm/C; Manufacturer Part Number: RP73PF1J866RBTDF; _Verified Footprint: .mfr-pn? footprint?; _Verified Symbol: .mfr-pn?; Resistance: 866R; Power Rating: 166mW; Temperature Coefficient: 25ppm/°C; Voltage Rating: 100V; Max Power Dissipation: 167mW; _Verified BOM: .mfr-pn?; Supplier 1: Digi-Key; Supplier Part Number 1: A110102CT-ND; Manufacturer: TE Connectivity; RoHS: Yes; Category: Chip SMD Resistors; Stock 1: 974; Pricing 1: 1=0.66000, 10=0.48500, 100=0.28230 (USD); Mount: Surface Mount; Case/Package: 0603; Case Code (Metric): 1608; Case Code (Imperial): 0603; Min Operating Temperature: -55°C; Max Operating Temperature: 155°C; Tolerance: 0.1%; Packaging: Tape and Reel; Composition: Thin Film; Number of Terminations: 2; Voltage Rating (DC): 100V; Package Quantity: 1000; Termination: Solder; Length: 0.061inch; Height: 0.022inch; Width: 0.031inch; Depth: 0.8mm; REACH SVHC: No SVHC; ComponentLink1URL: https://datasheet.ciiva.com/18601/eng-ds-1773272-j-18601499.pdf?src-supplier=Digi-Key; ComponentLink1Description: https://datasheet.ciiva.com/18601/eng-ds-1773272-j-18601499.pdf?src-supplier=Digi-Key; ComponentLink2URL: https://datasheet.ciiva.com/18601/eng-ds-1773272-j-18601500.pdf?src-supplier=Digi-Key; ComponentLink2Description: https://datasheet.ciiva.com/18601/eng-ds-1773272-j-18601500.pdf?src-supplier=Digi-Key; ComponentLink3URL: https://datasheet.ciiva.com/18601/eng-ds-1773272-j-18601501.pdf?src-supplier=Digi-Key; ComponentLink3Description: https://datasheet.ciiva.com/18601/eng-ds-1773272-j-18601501.pdf?src-supplier=Digi-Key
simulation model RESISTOR (Resistor)
footprint 0603R(1608)
pins: 1, 2